# EAGLE library part CD74HC4067M96 (library CD74HC4067M96)
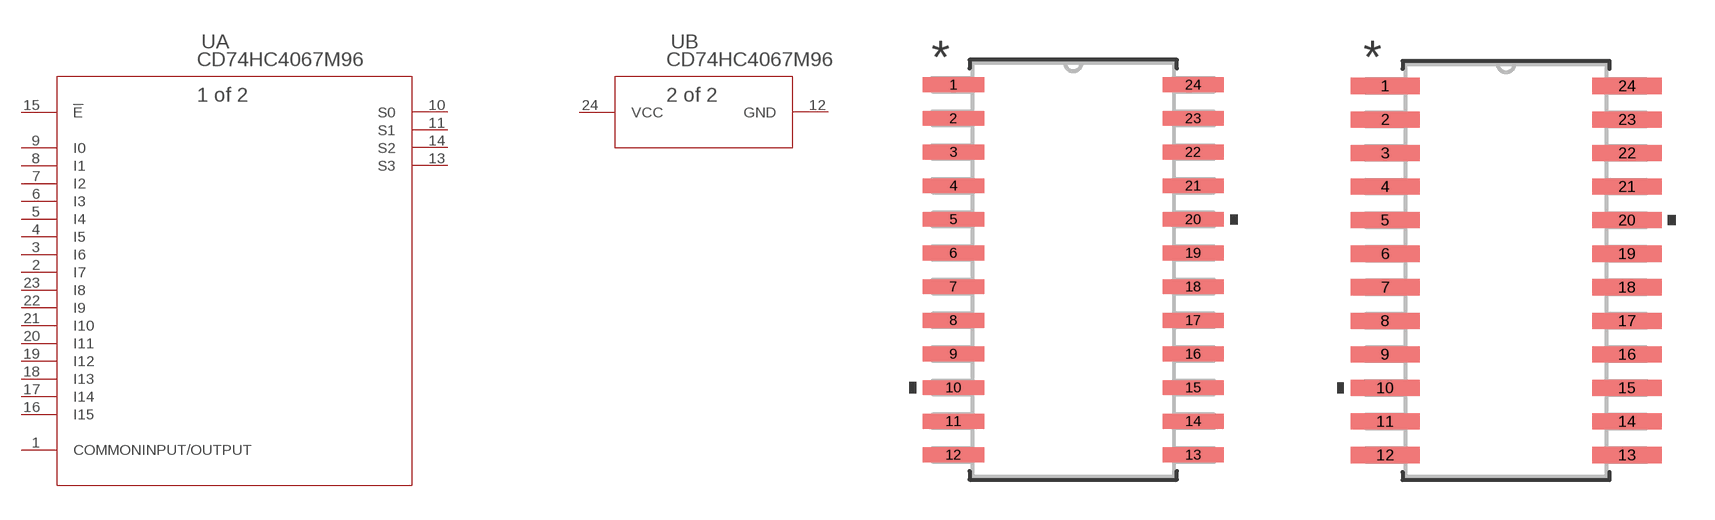
[diagram p0: symbol with the pads of DW24; footprints DW24, DW24-M]

Designator prefix U; gates A=CD74HC4067M96 B=CD74HC4067M96_A

## CD74HC4067M96 (MANUFACTURER_PART_NUMBER: CD74HC4067M96; VENDOR: Texas Instruments)  [DW24]
1  A:COMMONINPUT/OUTPUT
2  A:I7  in
3  A:I6  in
4  A:I5  in
5  A:I4  in
6  A:I3  in
7  A:I2  in
8  A:I1  in
9  A:I0  in
10  A:S0  out
11  A:S1  out
12  B:GND  pwr
13  A:S3  out
14  A:S2  out
15  A:!E  in
16  A:I15  in
17  A:I14  in
18  A:I13  in
19  A:I12  in
20  A:I11  in
21  A:I10  in
22  A:I9  in
23  A:I8  in
24  B:VCC  pwr

## CD74HC4067M96DW24-M (MANUFACTURER_PART_NUMBER: CD74HC4067M96; VENDOR: Texas Instruments)  [DW24-M]
Pads as for DW24

## CD74HC4067M96DW24-L (MANUFACTURER_PART_NUMBER: CD74HC4067M96; VENDOR: Texas Instruments)  [DW24-L]
Pads as for DW24

## Footprint DW24 (pad centres in mm)
smd 2.311 x 0.559: 1 -4.521,6.985; 2 -4.521,5.715; 3 -4.521,4.445; 4 -4.521,3.175; 5 -4.521,1.905; 6 -4.521,0.635; 7 -4.521,-0.635; 8 -4.521,-1.905; 9 -4.521,-3.175; 10 -4.521,-4.445; 11 -4.521,-5.715; 12 -4.521,-6.985; 13 4.521,-6.985; 14 4.521,-5.715; 15 4.521,-4.445; 16 4.521,-3.175; 17 4.521,-1.905; 18 4.521,-0.635; 19 4.521,0.635; 20 4.521,1.905; 21 4.521,3.175; 22 4.521,4.445; 23 4.521,5.715; 24 4.521,6.985

## Footprint DW24-M (pad centres in mm)
smd 2.616 x 0.61: 1 -4.572,6.985; 2 -4.572,5.715; 3 -4.572,4.445; 4 -4.572,3.175; 5 -4.572,1.905; 6 -4.572,0.635; 7 -4.572,-0.635; 8 -4.572,-1.905; 9 -4.572,-3.175; 10 -4.572,-4.445; 11 -4.572,-5.715; 12 -4.572,-6.985; 13 4.572,-6.985; 14 4.572,-5.715; 15 4.572,-4.445; 16 4.572,-3.175; 17 4.572,-1.905; 18 4.572,-0.635; 19 4.572,0.635; 20 4.572,1.905; 21 4.572,3.175; 22 4.572,4.445; 23 4.572,5.715; 24 4.572,6.985

## Footprint DW24-L (pad centres in mm)
smd 2.007 x 0.508: 1 -4.47,6.985; 2 -4.47,5.715; 3 -4.47,4.445; 4 -4.47,3.175; 5 -4.47,1.905; 6 -4.47,0.635; 7 -4.47,-0.635; 8 -4.47,-1.905; 9 -4.47,-3.175; 10 -4.47,-4.445; 11 -4.47,-5.715; 12 -4.47,-6.985; 13 4.47,-6.985; 14 4.47,-5.715; 15 4.47,-4.445; 16 4.47,-3.175; 17 4.47,-1.905; 18 4.47,-0.635; 19 4.47,0.635; 20 4.47,1.905; 21 4.47,3.175; 22 4.47,4.445; 23 4.47,5.715; 24 4.47,6.985